# EAGLE library part FTSH-105-01-F-D-K (library XMC4500_Relax-V1)
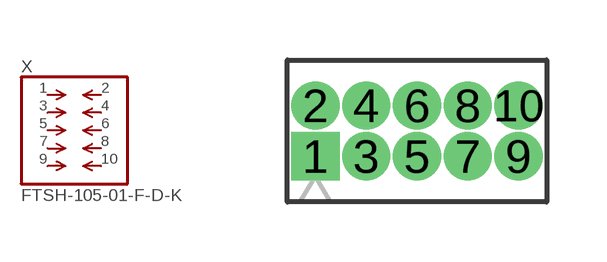
[diagram p4: symbol with the pads of FTSH-105-01-F-D-K; footprint FTSH-105-01-F-D-K]

Designator prefix X

## FTSH-105-01-F-D-K  [FTSH-105-01-F-D-K]
1  1  pas
2  2  pas
3  3  pas
4  4  pas
5  5  pas
6  6  pas
7  7  pas
8  8  pas
9  9  pas
10  10  pas

## Footprint FTSH-105-01-F-D-K (pad centres in mm)
drill 0.7 pad 1.05 square: 1 -2.54,-0.635
drill 0.7 pad 1.05 round: 2 -2.54,0.635; 3 -1.27,-0.635; 4 -1.27,0.635; 5 0,-0.635; 6 0,0.635; 7 1.27,-0.635; 8 1.27,0.635; 9 2.54,-0.635; 10 2.54,0.635